# EAGLE library part AD620 (library IC)
Analog Devices, Low Power Instrumentation Amp
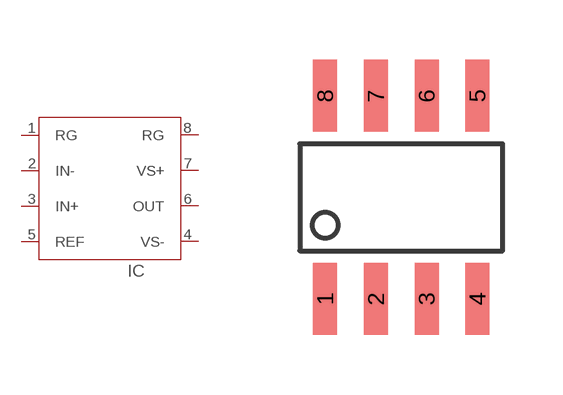
[diagram p157: symbol with the pads of SOIC8; footprint SOIC8]

Designator prefix IC

## AD620R  [SOIC8]
1  RG
2  IN-
3  IN+
4  VS-
5  REF
6  OUT
7  VS+
8  RG

## Footprint SOIC8 (pad centres in mm)
8 pin SOIC 150-mil package
smd 0.6 x 1.8: 1 -1.905,-2.54; 2 -0.635,-2.54; 3 0.635,-2.54; 4 1.905,-2.54; 5 1.905,2.54; 6 0.635,2.54; 7 -0.635,2.54; 8 -1.905,2.54